# Altium footprint library Burr-Brown Footprints.PcbLib: 201 footprints (part 5 of 13)
Each footprint in its own frame and in the unit in brackets; x right, y up, seen from the top. Pads: shape width x height; smd on the part's side, far side on the other; paste and mask are expansions set on the pad; w line width, h text height; cw(c..) or ccw(c..) is an arc to the next point about the centre after c.
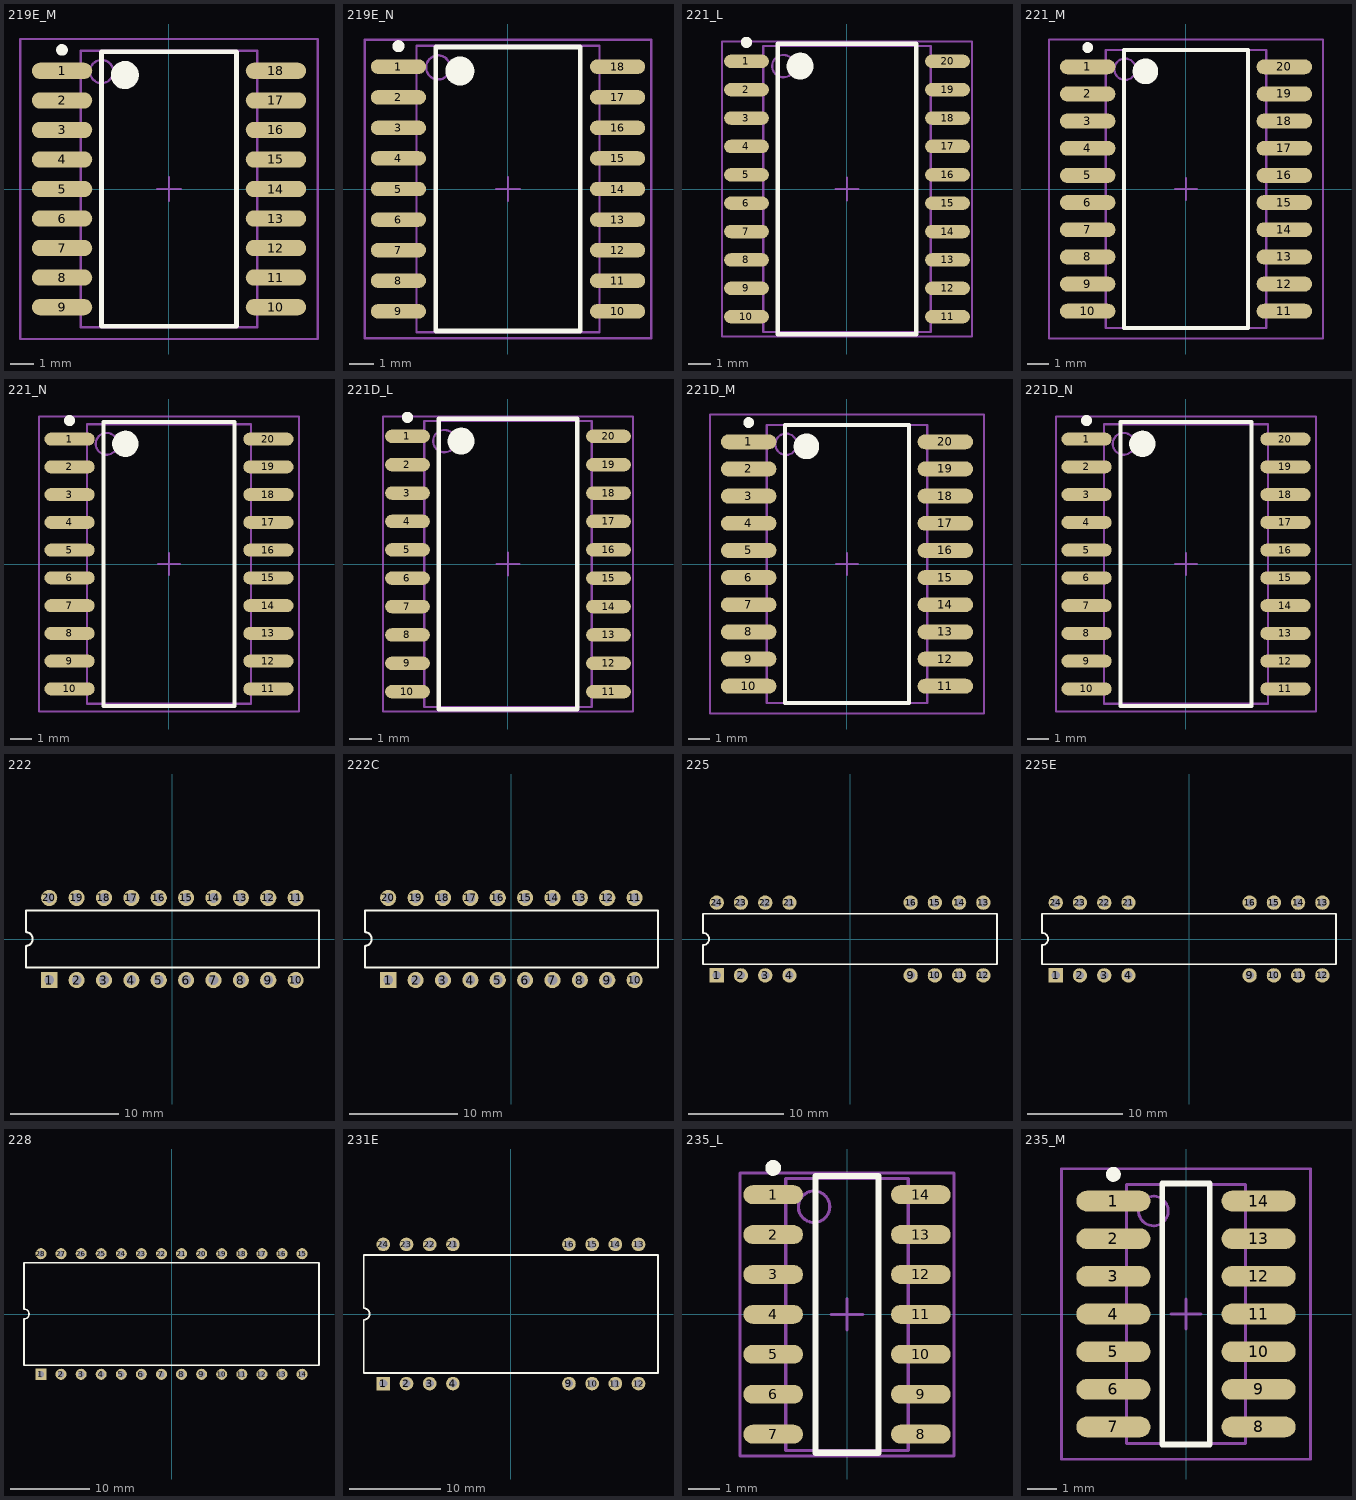
[diagram p4: the footprints below, top view; thin cyan lines are the x and y axes]

## 219E_M [mm] "18-Pin Small Outline Integrated Circuit 1.27 mm Pitch, IPC Low Density"
height 2.65
pads (18):
  oval 2.6x0.7 smd: 1(-4.6,5.08) 2(-4.6,3.81) 3(-4.6,2.54) 4(-4.6,1.27) 5(-4.6,0) 6(-4.6,-1.27) 7(-4.6,-2.54) 8(-4.6,-3.81) 9(-4.6,-5.08) 10(4.6,-5.08) 11(4.6,-3.81) 12(4.6,-2.54) 13(4.6,-1.27) 14(4.6,0) 15(4.6,1.27) 16(4.6,2.54) 17(4.6,3.81) 18(4.6,5.08)
Top Overlay:
  circle w0.25: c-4.6,5.98 r0.125
  circle w0.6: c-1.9,4.9 r0.3
  lines w0.2: -2.9,-5.9 -2.9,5.9 2.9,5.9 2.9,-5.9 -2.9,-5.9
Mechanical 13:
  circle w0.1: c-2.9,5.05 r0.5
  lines w0.1: -3.8,-5.95 -3.8,5.95 3.8,5.95 3.8,-5.95 -3.8,-5.95
Mechanical 15:
  lines w0.1: -0.5,0 0.5,0 ; 0,-0.5 0,0.5 ; -6.4,-6.45 -6.4,6.45 6.4,6.45 6.4,-6.45 -6.4,-6.45
3D body: height 2.65, standoff 0, extent -3.8,-5.95 3.8,5.95

## 219E_N [mm] "18-Pin Small Outline Integrated Circuit 1.27 mm Pitch, IPC Medium Density"
height 2.65
pads (18):
  oval 2.3x0.6 smd: 1(-4.55,5.08) 2(-4.55,3.81) 3(-4.55,2.54) 4(-4.55,1.27) 5(-4.55,0) 6(-4.55,-1.27) 7(-4.55,-2.54) 8(-4.55,-3.81) 9(-4.55,-5.08) 10(4.55,-5.08) 11(4.55,-3.81) 12(4.55,-2.54) 13(4.55,-1.27) 14(4.55,0) 15(4.55,1.27) 16(4.55,2.54) 17(4.55,3.81) 18(4.55,5.08)
Top Overlay:
  circle w0.25: c-4.55,5.93 r0.125
  circle w0.6: c-2,4.9 r0.3
  lines w0.2: -3,-5.9 -3,5.9 3,5.9 3,-5.9 -3,-5.9
Mechanical 13:
  circle w0.1: c-2.9,5.05 r0.5
  lines w0.1: -3.8,-5.95 -3.8,5.95 3.8,5.95 3.8,-5.95 -3.8,-5.95
Mechanical 15:
  lines w0.1: -0.5,0 0.5,0 ; 0,-0.5 0,0.5 ; -5.95,-6.2 -5.95,6.2 5.95,6.2 5.95,-6.2 -5.95,-6.2
3D body: height 2.65, standoff 0, extent -3.8,-5.95 3.8,5.95

## 221_L [mm] "20-Pin Small Outline Integrated Circuit 1.27 mm Pitch, IPC High Density"
height 2.64
pads (20):
  oval 2x0.6 smd: 1(-4.5,5.715) 2(-4.5,4.445) 3(-4.5,3.175) 4(-4.5,1.905) 5(-4.5,0.635) 6(-4.5,-0.635) 7(-4.5,-1.905) 8(-4.5,-3.175) 9(-4.5,-4.445) 10(-4.5,-5.715) 11(4.5,-5.715) 12(4.5,-4.445) 13(4.5,-3.175) 14(4.5,-1.905) 15(4.5,-0.635) 16(4.5,0.635) 17(4.5,1.905) 18(4.5,3.175) 19(4.5,4.445) 20(4.5,5.715)
Top Overlay:
  circle w0.25: c-4.5,6.565 r0.125
  circle w0.6: c-2.1,5.5 r0.3
  lines w0.2: -3.1,-6.5 -3.1,6.5 3.1,6.5 3.1,-6.5 -3.1,-6.5
Mechanical 13:
  circle w0.1: c-2.85,5.5 r0.5
  lines w0.1: -3.75,-6.4 -3.75,6.4 3.75,6.4 3.75,-6.4 -3.75,-6.4
Mechanical 15:
  lines w0.1: -0.5,0 0.5,0 ; 0,-0.5 0,0.5 ; -5.6,-6.6 -5.6,6.6 5.6,6.6 5.6,-6.6 -5.6,-6.6
3D body: height 2.64, standoff 0, extent -3.75,-6.4 3.75,6.4

## 221_M [mm] "20-Pin Small Outline Integrated Circuit 1.27 mm Pitch, IPC Low Density"
height 2.64
pads (20):
  oval 2.6x0.7 smd: 1(-4.6,5.715) 2(-4.6,4.445) 3(-4.6,3.175) 4(-4.6,1.905) 5(-4.6,0.635) 6(-4.6,-0.635) 7(-4.6,-1.905) 8(-4.6,-3.175) 9(-4.6,-4.445) 10(-4.6,-5.715) 11(4.6,-5.715) 12(4.6,-4.445) 13(4.6,-3.175) 14(4.6,-1.905) 15(4.6,-0.635) 16(4.6,0.635) 17(4.6,1.905) 18(4.6,3.175) 19(4.6,4.445) 20(4.6,5.715)
Top Overlay:
  circle w0.25: c-4.6,6.615 r0.125
  circle w0.6: c-1.9,5.5 r0.3
  lines w0.2: -2.9,-6.5 -2.9,6.5 2.9,6.5 2.9,-6.5 -2.9,-6.5
Mechanical 13:
  circle w0.1: c-2.85,5.6 r0.5
  lines w0.1: -3.75,-6.5 -3.75,6.5 3.75,6.5 3.75,-6.5 -3.75,-6.5
Mechanical 15:
  lines w0.1: -0.5,0 0.5,0 ; 0,-0.5 0,0.5 ; -6.4,-7 -6.4,7 6.4,7 6.4,-7 -6.4,-7
3D body: height 2.64, standoff 0, extent -3.75,-6.5 3.75,6.5

## 221_N [mm] "20-Pin Small Outline Integrated Circuit 1.27 mm Pitch, IPC Medium Density"
height 2.64
pads (20):
  oval 2.3x0.6 smd: 1(-4.55,5.715) 2(-4.55,4.445) 3(-4.55,3.175) 4(-4.55,1.905) 5(-4.55,0.635) 6(-4.55,-0.635) 7(-4.55,-1.905) 8(-4.55,-3.175) 9(-4.55,-4.445) 10(-4.55,-5.715) 11(4.55,-5.715) 12(4.55,-4.445) 13(4.55,-3.175) 14(4.55,-1.905) 15(4.55,-0.635) 16(4.55,0.635) 17(4.55,1.905) 18(4.55,3.175) 19(4.55,4.445) 20(4.55,5.715)
Top Overlay:
  circle w0.25: c-4.55,6.565 r0.125
  circle w0.6: c-2,5.5 r0.3
  lines w0.2: -3,-6.5 -3,6.5 3,6.5 3,-6.5 -3,-6.5
Mechanical 13:
  circle w0.1: c-2.85,5.5 r0.5
  lines w0.1: -3.75,-6.4 -3.75,6.4 3.75,6.4 3.75,-6.4 -3.75,-6.4
Mechanical 15:
  lines w0.1: -0.5,0 0.5,0 ; 0,-0.5 0,0.5 ; -5.95,-6.75 -5.95,6.75 5.95,6.75 5.95,-6.75 -5.95,-6.75
3D body: height 2.64, standoff 0, extent -3.75,-6.4 3.75,6.4

## 221D_L [mm] "20-Pin Small Outline Integrated Circuit 1.27 mm Pitch, IPC High Density"
height 2.65
pads (20):
  oval 2x0.6 smd: 1(-4.5,5.715) 2(-4.5,4.445) 3(-4.5,3.175) 4(-4.5,1.905) 5(-4.5,0.635) 6(-4.5,-0.635) 7(-4.5,-1.905) 8(-4.5,-3.175) 9(-4.5,-4.445) 10(-4.5,-5.715) 11(4.5,-5.715) 12(4.5,-4.445) 13(4.5,-3.175) 14(4.5,-1.905) 15(4.5,-0.635) 16(4.5,0.635) 17(4.5,1.905) 18(4.5,3.175) 19(4.5,4.445) 20(4.5,5.715)
Top Overlay:
  circle w0.25: c-4.5,6.565 r0.125
  circle w0.6: c-2.1,5.5 r0.3
  lines w0.2: -3.1,-6.5 -3.1,6.5 3.1,6.5 3.1,-6.5 -3.1,-6.5
Mechanical 13:
  circle w0.1: c-2.85,5.5 r0.5
  lines w0.1: -3.75,-6.4 -3.75,6.4 3.75,6.4 3.75,-6.4 -3.75,-6.4
Mechanical 15:
  lines w0.1: -0.5,0 0.5,0 ; 0,-0.5 0,0.5 ; -5.6,-6.6 -5.6,6.6 5.6,6.6 5.6,-6.6 -5.6,-6.6
3D body: height 2.65, standoff 0, extent -3.75,-6.4 3.75,6.4

## 221D_M [mm] "20-Pin Small Outline Integrated Circuit 1.27 mm Pitch, IPC Low Density"
height 2.65
pads (20):
  oval 2.6x0.7 smd: 1(-4.6,5.715) 2(-4.6,4.445) 3(-4.6,3.175) 4(-4.6,1.905) 5(-4.6,0.635) 6(-4.6,-0.635) 7(-4.6,-1.905) 8(-4.6,-3.175) 9(-4.6,-4.445) 10(-4.6,-5.715) 11(4.6,-5.715) 12(4.6,-4.445) 13(4.6,-3.175) 14(4.6,-1.905) 15(4.6,-0.635) 16(4.6,0.635) 17(4.6,1.905) 18(4.6,3.175) 19(4.6,4.445) 20(4.6,5.715)
Top Overlay:
  circle w0.25: c-4.6,6.615 r0.125
  circle w0.6: c-1.9,5.5 r0.3
  lines w0.2: -2.9,-6.5 -2.9,6.5 2.9,6.5 2.9,-6.5 -2.9,-6.5
Mechanical 13:
  circle w0.1: c-2.85,5.6 r0.5
  lines w0.1: -3.75,-6.5 -3.75,6.5 3.75,6.5 3.75,-6.5 -3.75,-6.5
Mechanical 15:
  lines w0.1: -0.5,0 0.5,0 ; 0,-0.5 0,0.5 ; -6.4,-7 -6.4,7 6.4,7 6.4,-7 -6.4,-7
3D body: height 2.65, standoff 0, extent -3.75,-6.5 3.75,6.5

## 221D_N [mm] "20-Pin Small Outline Integrated Circuit 1.27 mm Pitch, IPC Medium Density"
height 2.65
pads (20):
  oval 2.3x0.6 smd: 1(-4.55,5.715) 2(-4.55,4.445) 3(-4.55,3.175) 4(-4.55,1.905) 5(-4.55,0.635) 6(-4.55,-0.635) 7(-4.55,-1.905) 8(-4.55,-3.175) 9(-4.55,-4.445) 10(-4.55,-5.715) 11(4.55,-5.715) 12(4.55,-4.445) 13(4.55,-3.175) 14(4.55,-1.905) 15(4.55,-0.635) 16(4.55,0.635) 17(4.55,1.905) 18(4.55,3.175) 19(4.55,4.445) 20(4.55,5.715)
Top Overlay:
  circle w0.25: c-4.55,6.565 r0.125
  circle w0.6: c-2,5.5 r0.3
  lines w0.2: -3,-6.5 -3,6.5 3,6.5 3,-6.5 -3,-6.5
Mechanical 13:
  circle w0.1: c-2.85,5.5 r0.5
  lines w0.1: -3.75,-6.4 -3.75,6.4 3.75,6.4 3.75,-6.4 -3.75,-6.4
Mechanical 15:
  lines w0.1: -0.5,0 0.5,0 ; 0,-0.5 0,0.5 ; -5.95,-6.75 -5.95,6.75 5.95,6.75 5.95,-6.75 -5.95,-6.75
3D body: height 2.65, standoff 0, extent -3.75,-6.4 3.75,6.4

## 222 [mm] "DIP; 20 Leads; Row Spacing 7.62 mm; Pitch 2.54 mm"
height 5.33
pads (20):
  rect 1.5x1.5 hole 0.9: 1(-11.43,-3.81)
  round 1.5 hole 0.9: 2(-8.89,-3.81) 3(-6.35,-3.81) 4(-3.81,-3.81) 5(-1.27,-3.81) 6(1.27,-3.81) 7(3.81,-3.81) 8(6.35,-3.81) 9(8.89,-3.81) 10(11.43,-3.81) 11(11.43,3.81) 12(8.89,3.81) 13(6.35,3.81) 14(3.81,3.81) 15(1.27,3.81) 16(-1.27,3.81) 17(-3.81,3.81) 18(-6.35,3.81) 19(-8.89,3.81) 20(-11.43,3.81)
Top Overlay:
  lines w0.2: -13.6,-2.65 13.6,-2.65 13.6,2.65 -13.6,2.65 -13.6,0.635 cw(c-13.6,0) -13.6,-0.635 -13.6,-2.65

## 222C [mm] "DIP; 20 Leads; Row Spacing 7.62 mm; Pitch 2.54 mm"
height 5.33
pads (20):
  rect 1.5x1.5 hole 0.9: 1(-11.43,-3.81)
  round 1.5 hole 0.9: 2(-8.89,-3.81) 3(-6.35,-3.81) 4(-3.81,-3.81) 5(-1.27,-3.81) 6(1.27,-3.81) 7(3.81,-3.81) 8(6.35,-3.81) 9(8.89,-3.81) 10(11.43,-3.81) 11(11.43,3.81) 12(8.89,3.81) 13(6.35,3.81) 14(3.81,3.81) 15(1.27,3.81) 16(-1.27,3.81) 17(-3.81,3.81) 18(-6.35,3.81) 19(-8.89,3.81) 20(-11.43,3.81)
Top Overlay:
  lines w0.2: -13.6,-2.65 13.6,-2.65 13.6,2.65 -13.6,2.65 -13.6,0.635 cw(c-13.6,0) -13.6,-0.635 -13.6,-2.65

## 225 [mm] "DIP; 24 Leads (8 Absent); Row Spacing 7.62 mm; Pitch 2.54 mm"
height 4.7
pads (16):
  rect 1.5x1.5 hole 0.9: 1(-13.97,-3.81)
  round 1.5 hole 0.9: 2(-11.43,-3.81) 3(-8.89,-3.81) 4(-6.35,-3.81) 9(6.35,-3.81) 10(8.89,-3.81) 11(11.43,-3.81) 12(13.97,-3.81) 13(13.97,3.81) 14(11.43,3.81) 15(8.89,3.81) 16(6.35,3.81) 21(-6.35,3.81) 22(-8.89,3.81) 23(-11.43,3.81) 24(-13.97,3.81)
Top Overlay:
  lines w0.2: -15.4,-2.65 15.4,-2.65 15.4,2.65 -15.4,2.65 -15.4,0.635 cw(c-15.4,0) -15.4,-0.635 -15.4,-2.65

## 225E [mm] "DIP; 24 Leads (8 Absent); Row Spacing 7.62 mm; Pitch 2.54 mm"
height 4.7
pads (16):
  rect 1.5x1.5 hole 0.9: 1(-13.97,-3.81)
  round 1.5 hole 0.9: 2(-11.43,-3.81) 3(-8.89,-3.81) 4(-6.35,-3.81) 9(6.35,-3.81) 10(8.89,-3.81) 11(11.43,-3.81) 12(13.97,-3.81) 13(13.97,3.81) 14(11.43,3.81) 15(8.89,3.81) 16(6.35,3.81) 21(-6.35,3.81) 22(-8.89,3.81) 23(-11.43,3.81) 24(-13.97,3.81)
Top Overlay:
  lines w0.2: -15.4,-2.65 15.4,-2.65 15.4,2.65 -15.4,2.65 -15.4,0.635 cw(c-15.4,0) -15.4,-0.635 -15.4,-2.65

## 228 [mm] "DIP; 28 Leads; Row Spacing 15.24 mm; Pitch 2.54 mm"
height 4.9
pads (28):
  rect 1.4x1.4 hole 0.8: 1(-16.51,-7.62)
  round 1.4 hole 0.8: 2(-13.97,-7.62) 3(-11.43,-7.62) 4(-8.89,-7.62) 5(-6.35,-7.62) 6(-3.81,-7.62) 7(-1.27,-7.62) 8(1.27,-7.62) 9(3.81,-7.62) 10(6.35,-7.62) 11(8.89,-7.62) 12(11.43,-7.62) 13(13.97,-7.62) 14(16.51,-7.62) 15(16.51,7.62) 16(13.97,7.62) 17(11.43,7.62) 18(8.89,7.62) 19(6.35,7.62) 20(3.81,7.62) 21(1.27,7.62) 22(-1.27,7.62) 23(-3.81,7.62) 24(-6.35,7.62) 25(-8.89,7.62) 26(-11.43,7.62) 27(-13.97,7.62) 28(-16.51,7.62)
Top Overlay:
  lines w0.2: -18.65,-6.5 18.65,-6.5 18.65,6.5 -18.65,6.5 -18.65,0.635 cw(c-18.65,0) -18.65,-0.635 -18.65,-6.5

## 231E [mm] "DIP; 24 Leads (8 Absent); Row Spacing 15.24 mm; Pitch 2.54 mm"
height 9.52
pads (16):
  rect 1.5x1.5 hole 0.9: 1(-13.97,-7.62)
  round 1.5 hole 0.9: 2(-11.43,-7.62) 3(-8.89,-7.62) 4(-6.35,-7.62) 9(6.35,-7.62) 10(8.89,-7.62) 11(11.43,-7.62) 12(13.97,-7.62) 13(13.97,7.62) 14(11.43,7.62) 15(8.89,7.62) 16(6.35,7.62) 21(-6.35,7.62) 22(-8.89,7.62) 23(-11.43,7.62) 24(-13.97,7.62)
Top Overlay:
  lines w0.2: -16.1,-6.45 -16.1,-0.635 ccw(c-16.1,0) -16.1,0.635 -16.1,6.45 16.1,6.45 16.1,-6.45 -16.1,-6.45

## 235_L [mm] "14-Pin Small Outline Integrated Circuit 1.27 mm Pitch, IPC High Density"
height 1.73
pads (14):
  oval 1.9x0.6 smd: 1(-2.35,3.81) 2(-2.35,2.54) 3(-2.35,1.27) 4(-2.35,0) 5(-2.35,-1.27) 6(-2.35,-2.54) 7(-2.35,-3.81) 8(2.35,-3.81) 9(2.35,-2.54) 10(2.35,-1.27) 11(2.35,0) 12(2.35,1.27) 13(2.35,2.54) 14(2.35,3.81)
Top Overlay:
  circle w0.25: c-2.35,4.66 r0.125
  lines w0.2: -1,-4.4 1,-4.4 1,4.4 -1,4.4 -1,-4.4
Mechanical 13:
  circle w0.1: c-1.05,3.425 r0.5
  lines w0.1: -1.95,-4.325 1.95,-4.325 1.95,4.325 -1.95,4.325 -1.95,-4.325
Mechanical 15:
  lines w0.1: -0.5,0 0.5,0 ; 0,-0.5 0,0.5 ; -3.4,-4.5 3.4,-4.5 3.4,4.5 -3.4,4.5 -3.4,-4.5
3D body: height 1.73, standoff 0, extent -1.95,-4.325 1.95,4.325

## 235_M [mm] "14-Pin Small Outline Integrated Circuit 1.27 mm Pitch, IPC Low Density"
height 1.73
pads (14):
  oval 2.5x0.7 smd: 1(-2.45,3.81) 2(-2.45,2.54) 3(-2.45,1.27) 4(-2.45,0) 5(-2.45,-1.27) 6(-2.45,-2.54) 7(-2.45,-3.81) 8(2.45,-3.81) 9(2.45,-2.54) 10(2.45,-1.27) 11(2.45,0) 12(2.45,1.27) 13(2.45,2.54) 14(2.45,3.81)
Top Overlay:
  circle w0.25: c-2.45,4.71 r0.125
  lines w0.2: -0.8,-4.4 -0.8,4.4 0.8,4.4 0.8,-4.4 -0.8,-4.4
Mechanical 13:
  circle w0.1: c-1.1,3.475 r0.5
  lines w0.1: -2,-4.375 -2,4.375 2,4.375 2,-4.375 -2,-4.375
Mechanical 15:
  lines w0.1: -0.5,0 0.5,0 ; 0,-0.5 0,0.5 ; -4.2,-4.9 -4.2,4.9 4.2,4.9 4.2,-4.9 -4.2,-4.9
3D body: height 1.73, standoff 0, extent -2,-4.375 2,4.375